# Altium schematic symbol library TPS259814LRPWR.SchLib: 1 symbol
Pins are listed as number, name and electrical type; pins without a type are passive.

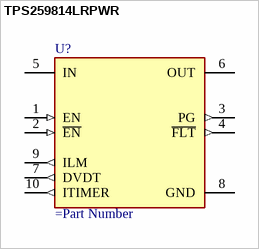
[diagram p0: symbol TPS259814LRPWR]

## TPS259814LRPWR
designator U?
Copyright: Copyright (C) 2026 Ultra Librarian. All rights reserved.
pins: 1 EN (in), 2 ~{EN} (in), 3 PG (out), 4 ~{FLT} (out), 5 IN (power), 6 OUT (power), 7 DVDT (out), 8 GND (power), 9 ILM (out), 10 ITIMER (out)